# EAGLE library part STM32L031K6 (library FaBo-MPU)
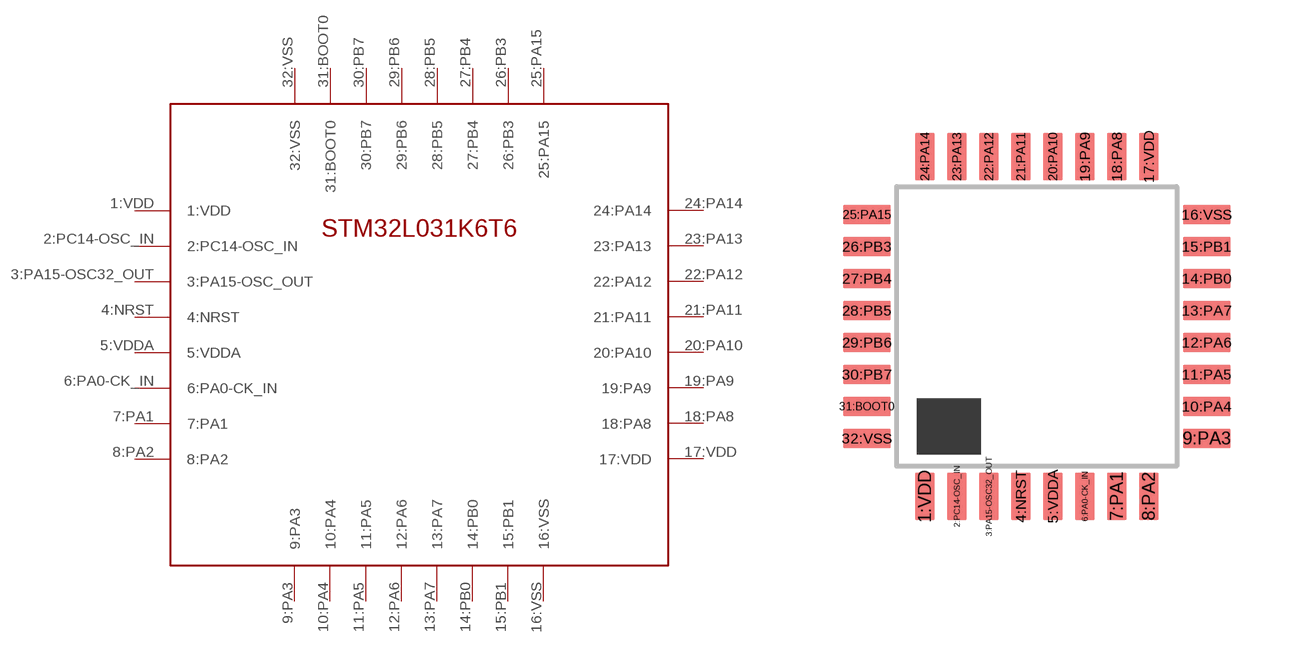
[diagram p14: symbol with the pads of LQFP-32; footprint LQFP-32]

Designator prefix -

## STM32L031K6  [LQFP-32]
1:VDD  1:VDD
2:PC14-OSC_IN  2:PC14-OSC_IN
3:PA15-OSC32_OUT  3:PA15-OSC_OUT
4:NRST  4:NRST
5:VDDA  5:VDDA
6:PA0-CK_IN  6:PA0-CK_IN
7:PA1  7:PA1
8:PA2  8:PA2
9:PA3  9:PA3
10:PA4  10:PA4
11:PA5  11:PA5
12:PA6  12:PA6
13:PA7  13:PA7
14:PB0  14:PB0
15:PB1  15:PB1
16:VSS  16:VSS
17:VDD  17:VDD
18:PA8  18:PA8
19:PA9  19:PA9
20:PA10  20:PA10
21:PA11  21:PA11
22:PA12  22:PA12
23:PA13  23:PA13
24:PA14  24:PA14
25:PA15  25:PA15
26:PB3  26:PB3
27:PB4  27:PB4
28:PB5  28:PB5
29:PB6  29:PB6
30:PB7  30:PB7
31:BOOT0  31:BOOT0
32:VSS  32:VSS

## Footprint LQFP-32 (pad centres in mm)
smd 0.5 x 1.2: 1:VDD -2.8,-4.25; 2:PC14-OSC_IN -2,-4.25; 3:PA15-OSC32_OUT -1.2,-4.25; 4:NRST -0.4,-4.25; 5:VDDA 0.4,-4.25; 6:PA0-CK_IN 1.2,-4.25; 7:PA1 2,-4.25; 8:PA2 2.8,-4.25; 17:VDD 2.8,4.25; 18:PA8 2,4.25; 19:PA9 1.2,4.25; 20:PA10 0.4,4.25; 21:PA11 -0.4,4.25; 22:PA12 -1.2,4.25; 23:PA13 -2,4.25; 24:PA14 -2.8,4.25
smd 1.2 x 0.5: 9:PA3 4.25,-2.8; 10:PA4 4.25,-2; 11:PA5 4.25,-1.2; 12:PA6 4.25,-0.4; 13:PA7 4.25,0.4; 14:PB0 4.25,1.2; 15:PB1 4.25,2; 16:VSS 4.25,2.8; 25:PA15 -4.25,2.8; 26:PB3 -4.25,2; 27:PB4 -4.25,1.2; 28:PB5 -4.25,0.4; 29:PB6 -4.25,-0.4; 30:PB7 -4.25,-1.2; 31:BOOT0 -4.25,-2; 32:VSS -4.25,-2.8